# EAGLE library part NACHTELK_BOARDS_DRIVER_A4988 (library NachtElk_Boards_MotorDriver)
Nacht Elk. - Boards - Motor Driver Ekrem Turan Fırat Nacht Elk. - Step Motor Driver A4988 20.03.2022
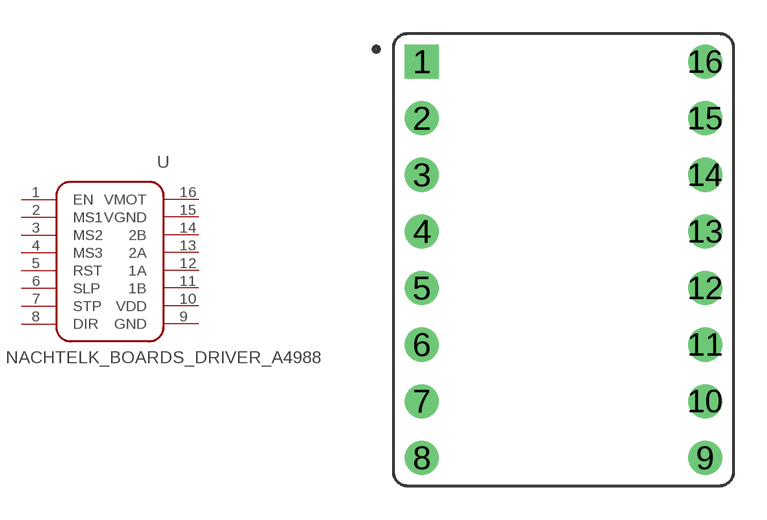
[diagram p0: symbol with the pads of A4988; footprint A4988]

Designator prefix U

## NACHTELK_BOARDS_DRIVER_A4988 (DIGI-KEY_NUMBER: 2183-2986-ND; MOUNT-TYPE: DIP; PART-NUMBER: 2986; VALUE: A4988)  [A4988]
1  EN  pwr
2  MS1
3  MS2
4  MS3
5  RST  pas
6  SLP
7  STP
8  DIR
9  GND  pwr
10  VDD
11  1B  out
12  1A  out
13  2A  out
14  2B  out
15  VGND  pwr
16  VMOT  pwr

## Footprint A4988 (pad centres in mm)
Nacht Elk. - Boards - Motor Driver Ekrem Turan Fırat Nacht Elk. - Step Motor Driver A4988 0.6x0.8 20.03.2022
drill 1.02 square: 1 -6.35,8.89
drill 1.02: 2 -6.35,6.35; 3 -6.35,3.81; 4 -6.35,1.27; 5 -6.35,-1.27; 6 -6.35,-3.81; 7 -6.35,-6.35; 8 -6.35,-8.89; 9 6.35,-8.89; 10 6.35,-6.35; 11 6.35,-3.81; 12 6.35,-1.27; 13 6.35,1.27; 14 6.35,3.81; 15 6.35,6.35; 16 6.35,8.89